# Altium schematic symbol library mcp73832.SchLib: 1 symbol
Pins are listed as number, name and electrical type; pins without a type are passive.

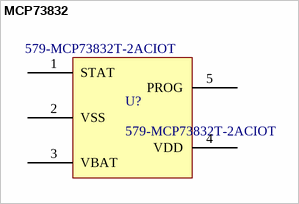
[diagram p0: symbol MCP73832]

## MCP73832
designator U?, comment 579-MCP73832T-2ACIOT
Supplier 1: Mouser; Supplier Part Number 1: 579-MCP73832T-2ACIOT
footprint SOT-23
pins: 1 STAT, 2 VSS, 3 VBAT, 4 VDD, 5 PROG